# EAGLE library part 102618-06 (library con-tyco-modu)
HEADER
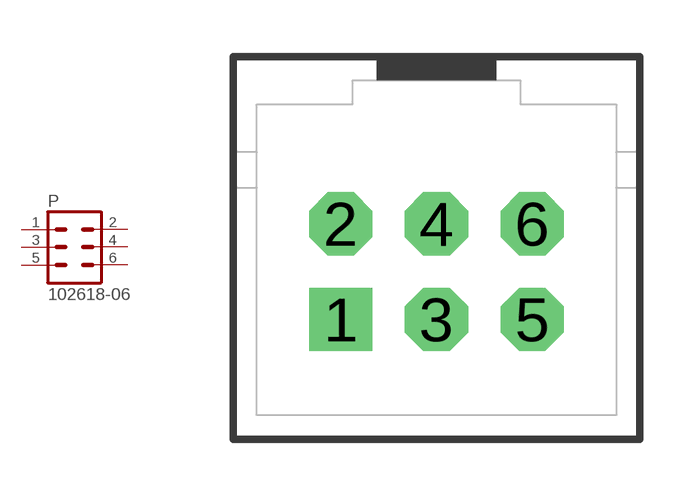
[diagram p31: symbol with the pads of 102618-06; footprint 102618-06]

Designator prefix P

## 102618-06  [102618-06]
1  1  pas
2  2  pas
3  3  pas
4  4  pas
5  5  pas
6  6  pas

## Footprint 102618-06 (pad centres in mm)
HEADER
drill 0.914 pad 1.676 square: 1 -2.54,-1.27
drill 0.914 pad 1.676 octagon: 2 -2.54,1.27; 3 0,-1.27; 4 0,1.27; 5 2.54,-1.27; 6 2.54,1.27